# EAGLE library part KAYO_TVS_SMF05C (library kxnStandard_diod)
Check prices <https://pricing.snapeda.com/parts/SMF05C/ProTek%20Devices/view-part?ref=eda>
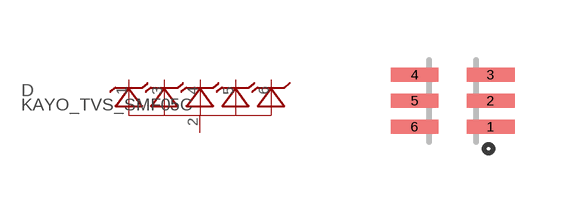
[diagram p0: symbol with the pads of SC70-6; footprint SC70-6]

Designator prefix D

## KAYO_TVS_SMF05C (AVAILABILITY: Bad; DESCRIPTION: 12.5V Clamp 8A (8/20µs) Ipp Tvs Diode Surface Mount SC-88/SC70-6/SOT-363; MF: ProTek Devices; MP: SMF05C; PACKAGE: TSSOP-6 ProTek Devices; PRICE: None)  [SC70-6]
1  C1  pas
2  A  pas
3  C2  pas
4  C3  pas
5  C4  pas
6  C5  pas

## Footprint SC70-6 (pad centres in mm)
6-Lead Thin Shrink Small Outline Transistor Package SC70-6L ( SOT-363 or TSSOP6) Source: http://www.analog.com/static/imported-files/data_sheets/ADA4853-1_4853-2_4853-3.pdf https://www.nexperia.com/packages/SOT363.html
smd 1.2 x 0.35: 1 0.95,-0.65; 2 0.95,0; 3 0.95,0.65; 4 -0.95,0.65; 5 -0.95,0; 6 -0.95,-0.65